# Altium footprint library RJ45_Breakout.PcbLib: 15 footprints
Each footprint in its own frame and in the unit in brackets; x right, y up, seen from the top. Pads: shape width x height; smd on the part's side, far side on the other; paste and mask are expansions set on the pad; w line width, h text height; cw(c..) or ccw(c..) is an arc to the next point about the centre after c.
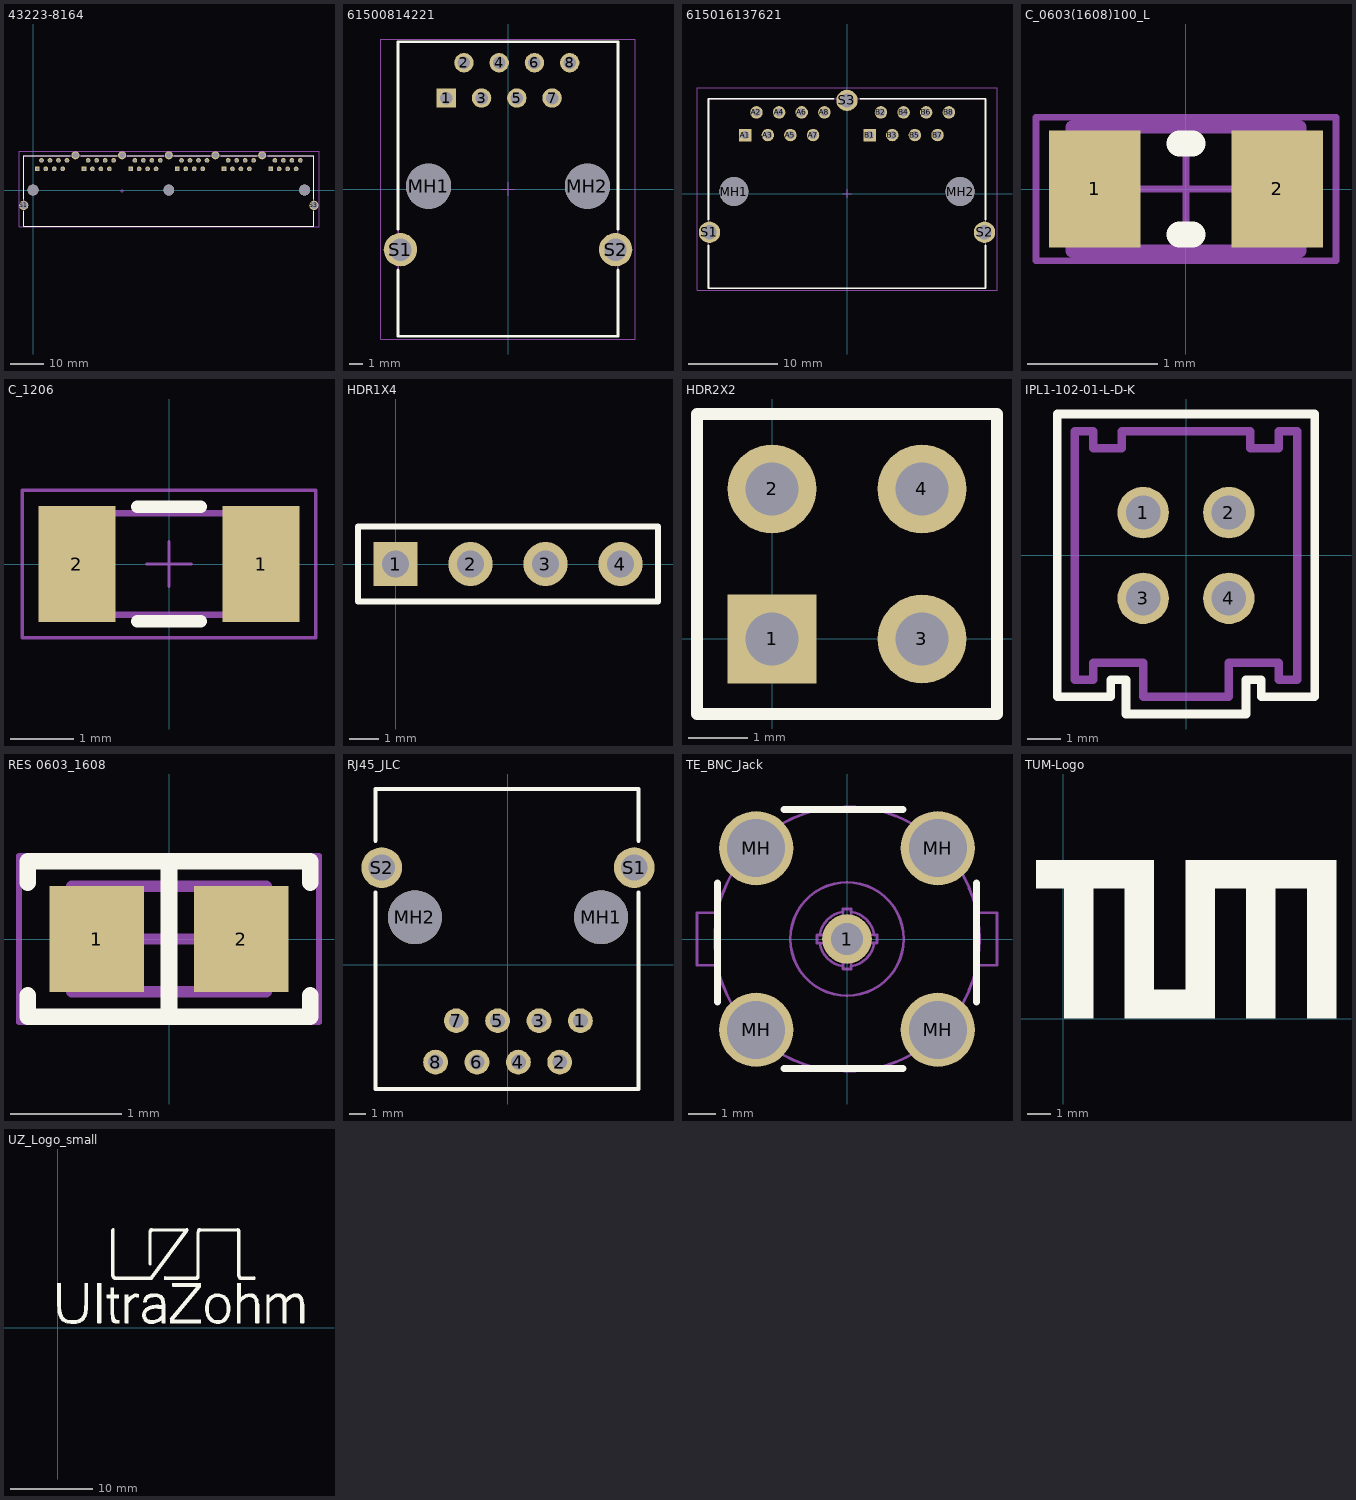
[diagram p0: the footprints below, top view; thin cyan lines are the x and y axes]

## 43223-8164 [mm] "Modular Jack Horizontal Shielded Ganged 6 Ports 8P8C Tab Down"
height 13.5
pads (58):
  rect 1.4x1.4 hole 0.9: A1(1.27,6.35) B1(15.24,6.35) C1(29.21,6.35) D1(43.18,6.35) E1(57.15,6.35) F1(71.12,6.35)
  round 1.4 hole 0.9: A2(2.54,8.89) A3(3.81,6.35) A4(5.08,8.89) A5(6.35,6.35) A6(7.62,8.89) A7(8.89,6.35) A8(10.16,8.89) B2(16.51,8.89) B3(17.78,6.35) B4(19.05,8.89) B5(20.32,6.35) B6(21.59,8.89) B7(22.86,6.35) B8(24.13,8.89) C2(30.48,8.89) C3(31.75,6.35) C4(33.02,8.89) C5(34.29,6.35) C6(35.56,8.89) C7(36.83,6.35) C8(38.1,8.89) D2(44.45,8.89) D3(45.72,6.35) D4(46.99,8.89) D5(48.26,6.35) D6(49.53,8.89) D7(50.8,6.35) D8(52.07,8.89) E2(58.42,8.89) E3(59.69,6.35) E4(60.96,8.89) E5(62.23,6.35) E6(63.5,8.89) E7(64.77,6.35) E8(66.04,8.89) F2(72.39,8.89) F3(73.66,6.35) F4(74.93,8.89) F5(76.2,6.35) F6(77.47,8.89) F7(78.74,6.35) F8(80.01,8.89)
  round 3.25 hole 3.25 unplated: MH1(0,0) MH2(40.64,0) MH2(81.28,0)
  round 2.8 hole 2.16: S1(-2.794,-4.572) S3(84.074,-4.572)
  round 2.4 hole 1.7: S2(12.7,10.414) S2(26.67,10.414) S2(40.64,10.414) S2(54.61,10.414) S2(68.58,10.414)
Top Overlay:
  lines w0.2: -2.78,-6.35 -2.78,-10.8 84.074,-10.8 84.074,-6.35 ; -2.78,-2.794 -2.78,10.34 11.176,10.34 ; 14.224,10.34 25.146,10.34 ; 28.194,10.34 39.116,10.34 ; 42.164,10.34 53.086,10.34 ; 56.134,10.34 67.056,10.34 ; 70.245,10.34 84.074,10.34 84.074,-2.794
Mechanical 5:
  lines w0.1: -2.78,-10.8 84.074,-10.8 84.074,10.34 -2.78,10.34 -2.78,-10.8
  text ".Designator" at 35.814,-3.556 h1.02
Mechanical 15:
  lines w0.05: 26.17,-0.23 27.17,-0.23 ; 26.67,-0.73 26.67,0.27 ; -4.15,-11 85.598,-11 85.598,11.64 -4.15,11.64 -4.15,-11
3D body "RJ45_6ch8pos.stp": height 12.83, standoff -3.3, extent -2.54,-10.414 83.82,10.16

## 61500814221 [mm] "Modular Jack Horizontal Shielded 8P8C Tab Down"
height 13.65
pads (12):
  rect 1.4x1.4 hole 0.9: 1(-4.445,6.55)
  round 1.4 hole 0.9: 2(-3.175,9.09) 3(-1.905,6.55) 4(-0.635,9.09) 5(0.635,6.55) 6(1.905,9.09) 7(3.175,6.55) 8(4.445,9.09)
  round 3.25 hole 3.25 unplated: MH1(-5.715,0.2) MH2(5.715,0.2)
  round 2.4 hole 1.6: S1(-7.75,-4.37) S2(7.75,-4.37)
Top Overlay:
  lines w0.2: -7.92,-5.84 -7.92,-10.6 7.92,-10.6 7.92,-5.84 ; -7.92,-2.9 -7.92,10.6 7.92,10.6 7.92,-2.9
Mechanical 13:
  lines w0.1: -7.92,-10.6 -7.92,10.6 7.92,10.6 7.92,-10.6 -7.92,-10.6
Mechanical 15:
  lines w0.05: -0.5,0 0.5,0 ; 0,-0.5 0,0.5 ; -9.15,-10.8 9.15,-10.8 9.15,10.8 -9.15,10.8 -9.15,-10.8
3D body "61500814221 (rev1).stp": height 13.7, standoff -3.9, extent -7.9,-10.6 7.9,10.6

## 615016137621 [mm] "Modular Jack Horizontal Shielded Dual Port 8P8C Tab Down"
height 13.75
pads (21):
  rect 1.4x1.4 hole 0.9: A1(-11.43,6.565) B1(2.54,6.565)
  round 1.4 hole 0.9: A2(-10.16,9.105) A3(-8.89,6.565) A4(-7.62,9.105) A5(-6.35,6.565) A6(-5.08,9.105) A7(-3.81,6.565) A8(-2.54,9.105) B2(3.81,9.105) B3(5.08,6.565) B4(6.35,9.105) B5(7.62,6.565) B6(8.89,9.105) B7(10.16,6.565) B8(11.43,9.105)
  round 3.25 hole 3.25 unplated: MH1(-12.7,0.215) MH2(12.7,0.215)
  round 2.4 hole 1.6: S1(-15.435,-4.355) S2(15.435,-4.355) S3(0,10.455)
Top Overlay:
  lines w0.2: -15.56,-5.81 -15.56,-10.635 15.56,-10.635 15.56,-5.81 ; -15.56,-2.9 -15.56,10.635 -1.5,10.635 ; 1.5,10.635 15.56,10.635 15.56,-2.9
Mechanical 5:
  lines w0.1: -15.56,-10.635 -15.56,10.635 15.56,10.635 15.56,-10.635 -15.56,-10.635
  text ".Designator" at -5.588,-0.762 h1.02
Mechanical 15:
  lines w0.05: -0.5,0 0.5,0 ; 0,-0.5 0,0.5 ; -16.835,-10.835 16.835,-10.835 16.835,11.855 -16.835,11.855 -16.835,-10.835
3D body "615016137621 (rev1).stp": height 13.75, standoff -3.85, extent -15.565,-10.635 15.565,10.635

## C_0603(1608)100_L [mm] "Chip Capacitor, Body 1.6x0.8mm, Height 1.0mm, IPC High Density"
height 1
pads (2):
  rect 0.7x0.9 smd: 1(-0.7,0) 2(0.7,0)
Top Overlay:
  lines w0.2: -0.05,-0.35 0.05,-0.35 ; -0.05,0.35 0.05,0.35
Mechanical 5:
  lines w0.1: -0.875,-0.475 0.875,-0.475 0.875,0.475 -0.875,0.475 -0.875,-0.475
  text ".Designator" at -5.334,0.508 h1.02
Mechanical 15:
  lines w0.05: -0.475,0 0.475,0 ; 0,-0.475 0,0.475 ; -1.15,-0.55 -1.15,0.55 1.15,0.55 1.15,-0.55 -1.15,-0.55
3D body: height 1, standoff 0, extent -0.875,-0.475 -0.525,0.475
3D body: height 1, standoff 0, extent -0.525,-0.475 0.525,0.475
3D body: height 1, standoff 0, extent 0.525,-0.475 0.875,0.475

## C_1206 [mm]
height 1.8
pads (2):
  rect 1.21x1.82 smd: 1(1.45,0) 2(-1.45,0)
Top Overlay:
  lines w0.2: -0.5,-0.9 0.5,-0.9 ; -0.5,0.9 0.5,0.9
Mechanical 5:
  lines w0.1: -1.1,-0.8 -1.1,0.8 ; 1.1,-0.8 1.1,0.8 ; -1.6,-0.8 1.6,-0.8 1.6,0.8 -1.6,0.8 -1.6,-0.8
  text ".Designator" at -5.334,0.762 h1.02
Mechanical 15:
  lines w0.05: -0.35,0 0.35,0 ; 0,-0.35 0,0.35 ; -2.31,-1.16 2.31,-1.16 2.31,1.16 -2.31,1.16 -2.31,-1.16
3D body "User Library-CAPC3216X___CAPC3216X180N.STEP": height 1.82, standoff 0, extent -1.6,-0.81 1.6,0.81

## Design_info [mm] "Design information about the PCB"
Top Overlay:
  text ".Project / .ProjectRevision / .AuthorParam / .ProjectDate" at 13.054,0.224 h2.3
Top Assembly:
  text ".Project / .ProjectRevision / .AuthorParam / .ProjectDate" at 0,0 h2.3

## HDR1X4 [mm] "Connector; Header; 4 Position"
pads (4):
  rect 1.5x1.5 hole 0.9: 1(0,0)
  round 1.5 hole 0.9: 2(2.54,0) 3(5.08,0) 4(7.62,0)
Top Overlay:
  lines w0.2: -1.27,-1.27 8.89,-1.27 8.89,1.27 -1.27,1.27 -1.27,-1.27

## HDR2X2 [mm] "Connector; Header; 2x2 Position"
pads (4):
  rect 1.5x1.5 hole 0.9: 1(0,0)
  round 1.5 hole 0.9: 2(0,2.54) 3(2.54,0) 4(2.54,2.54)
Top Overlay:
  lines w0.2: -1.27,-1.27 3.81,-1.27 3.81,3.81 -1.27,3.81 -1.27,-1.27

## ID_ProjectRev [mm] "project name + revision number"
Top Overlay:
  text ".ProjectName .ProjectRevision / .Author .Date" at -2.727,-0.335 h1.78

## IPL1-102-01-L-D-K [mil]
pads (4):
  round 60 hole 40 mask+3: 1(-50,50) 2(50,50) 3(-50,-50) 4(50,-50)
Top Overlay:
  lines w10: -95,165 95,165 ; -88,165 -150,165 -150,-165 -88,-165 -88,-145 -70,-145 -70,-185 70,-185 70,-145 88,-145 88,-165 150,-165 150,165 88,165
Mechanical 5:
  lines w10: -130,-145 -130,145 -108,145 -108,125 -75,125 -75,145 75,145 75,125 108,125 108,145 130,145 130,-145 108,-145 108,-125 50,-125 50,-165 -50,-165 -50,-125 -108,-125 -108,-145 -130,-145
  text ".Designator" at -160,160 h30
3D body "IPL1-102-01-F-D-K.stp": height 320, standoff -120, extent -130,-165 130,145

## RES 0603_1608 [mm] "Chip Resistor, 2-Leads, Body 1.60x0.80mm, IPC Medium Density"
height 0.45
pads (2):
  rect 0.85x0.95 smd: 1(-0.65,0) 2(0.65,0)
Top Overlay:
  lines w0.15: -1.27,-0.508 -1.27,-0.7 1.27,-0.7 1.27,-0.508 ; -1.27,0.508 -1.27,0.7 1.27,0.7 1.27,0.508 ; 0,-0.7 0,0.7
Top Assembly:
  lines w0.1: -0.875,-0.475 0.875,-0.475 0.875,0.475 -0.875,0.475 -0.875,-0.475
Top Courtyard:
  lines w0.05: -1.35,-0.75 1.35,-0.75 1.35,0.75 -1.35,0.75 -1.35,-0.75
Top Component Center:
  lines w0.1: -0.5,0 0.5,0 ; 0,-0.5 0,0.5
Top Designator:
  text ".Designator" at 1.35,0 h1
Top Value:
  text ".Comment" at 1.35,-0.75 h1
3D body "0603 resistor.STEP": height 0.45, standoff 0, extent -0.8,-0.4 0.8,0.4

## RJ45_JLC [mm]
pads (12):
  round 1.524 hole 0.914: 1(4.445,-3.43) 2(3.175,-5.97) 3(1.905,-3.43) 4(0.635,-5.97) 5(-0.635,-3.43) 6(-1.905,-5.97) 7(-3.175,-3.43) 8(-4.445,-5.97)
  round 3.3 hole 3.3 unplated: MH1(5.715,2.92) MH2(-5.715,2.92)
  round 2.5 hole 1.6: S1(7.75,5.97) S2(-7.75,5.97)
Top Overlay:
  lines w0.254: -8.128,4.445 -8.128,-7.62 -7.9,-7.62 7.9,-7.62 8.001,-7.62 8.001,4.445 ; -8.128,7.62 -8.128,10.795 8.001,10.795 8.001,7.62

## TE_BNC_Jack [mm] "TE_BNC_Jack"
height 15
pads (5):
  round 1.8 hole 1.17: 1(0,0)
  round 2.7 hole 2.11: MH(-3.3,-3.3) MH(-3.3,3.3) MH(3.3,-3.3) MH(3.3,3.3)
Top Overlay:
  lines w0.254: -4.699,-2.286 -4.699,2.032 ; -2.286,-4.699 2.032,-4.699 ; -2.286,4.699 2.032,4.699 ; 4.699,-2.286 4.699,2.032
Mechanical 5:
  circle w0.1: c3.3,3.3 r0.6
  circle w0.1: c0,0 r0.45
  circle w0.1: c0,0 r2.06
  circle w0.1: c0,0 r4.81
  lines w0.1: -4.699,-0.95 -5.45,-0.95 -5.45,0.952 -4.699,0.952 ; -0.989,-0.148 ccw(c0,0) -0.148,-0.989 ; -0.989,0.148 cw(c0,0) -0.148,0.989 ; -0.685,-0.147 ccw(c0,0) -0.15,-0.684 ; -0.684,0.15 cw(c0,0) -0.147,0.685 ; -0.684,-0.15 -1.09,-0.15 -1.09,0.15 -0.684,0.15 ; -0.15,-0.684 -0.15,-1.09 0.15,-1.09 0.15,-0.684 ; -0.15,0.684 -0.15,1.09 0.15,1.09 0.15,0.684 ; 0.147,-0.685 ccw(c0,0) 0.684,-0.15 ; 0.148,-0.989 ccw(c0,0) 0.989,-0.148 ; 0.148,0.989 cw(c0,0) 0.989,0.148 ; 0.15,0.684 cw(c0,0) 0.685,0.147 ; 0.684,-0.15 1.09,-0.15 1.09,0.15 0.684,0.15 ; 4.699,-0.95 5.45,-0.95 5.45,0.952 4.699,0.952
  text ".Designator" at -5.334,4.826 h1.02
Mechanical 15:
  lines w0.1: -0.5,0 0.5,0 ; 0,-0.5 0,0.5
3D body "1020980_5-1634503-1.stp": height 15, standoff -3.6, extent -5.51,-5.5 5.51,5.5

## TUM-Logo [mm]
Top Overlay:
  drawing of 1126 lines, arcs and shapes, not listed

## UZ_Logo_small [mm] "logo width 3cm"
Top Overlay:
  drawing of 354 lines, arcs and shapes, not listed